# Altium footprint library SMC (DO-214AB)Z.PcbLib: 1 footprints
Each footprint in its own frame and in the unit in brackets; x right, y up, seen from the top. Pads: shape width x height; smd on the part's side, far side on the other; paste and mask are expansions set on the pad; w line width, h text height; cw(c..) or ccw(c..) is an arc to the next point about the centre after c.
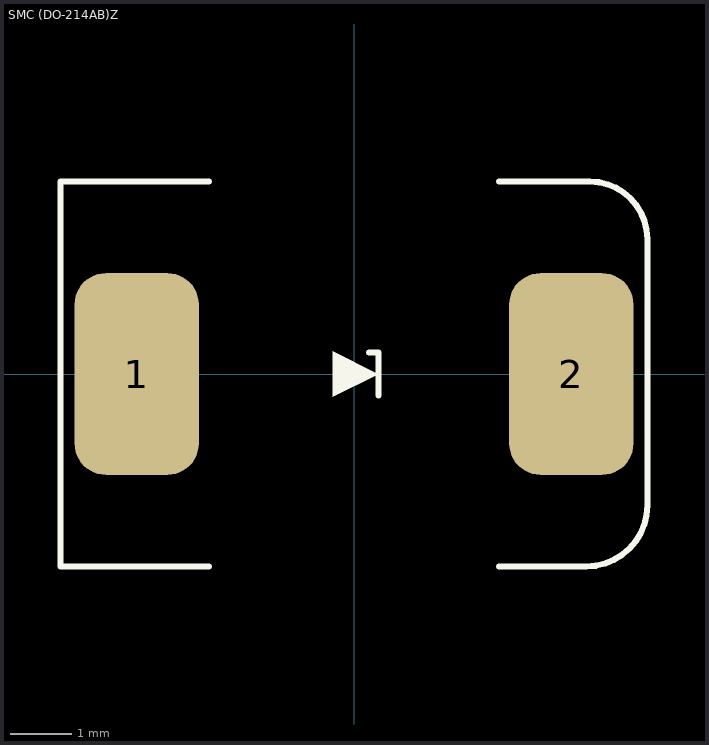
[diagram p0: the footprint, top view; thin cyan lines are the x and y axes]

## SMC (DO-214AB)Z [mil] "DO-214-AB/SMC; 2 C-Bend Leads; Body 7.9 x 5.9 mm, inc. leads (LxW)"
height 101.18
pads (2):
  rrect50% 80x130 smd: 1(-140,0) 2(140,0)
Top Overlay:
  region: -13.78,14.76 15.75,0 -13.78,-14.76
  lines w3.94: -93.5,-124.02 -188.98,-124.02 -188.98,124.02 -93.5,124.02 ; 9.84,13.78 15.75,13.78 15.75,-13.78 ; 93.5,-124.02 149.61,-124.02 ccw(c149.61,-84.65) 188.98,-84.65 188.98,86.55 ; 93.5,124.02 151.92,124.02 cw(c151.92,86.96) 188.98,86.96
3D body "SMC (DO-214AB).STEP": height 94.53, standoff -1.97, extent -153.54,-116 153.54,116.28